# EAGLE library part TLC5947 (library 24x16_RGB_ATXMega_Wifi_BBuck)
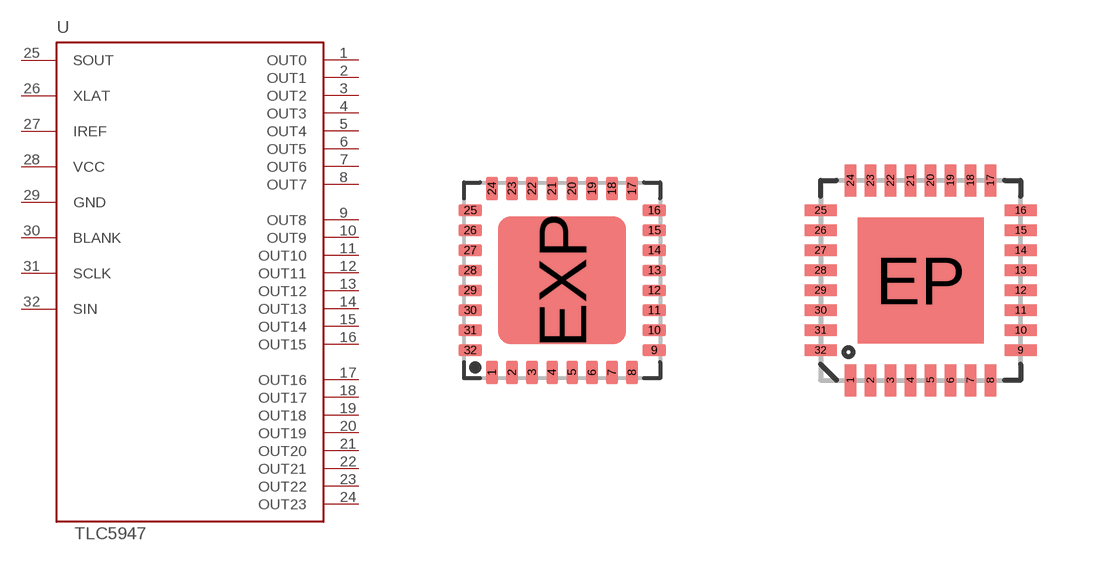
[diagram p5: symbol with the pads of QFN32; footprints QFN32, QFN32_XLP]

Designator prefix -

## TLC5947  [QFN32]
1  OUT0
2  OUT1
3  OUT2
4  OUT3
5  OUT4
6  OUT5
7  OUT6
8  OUT7
9  OUT8
10  OUT9
11  OUT10
12  OUT11
13  OUT12
14  OUT13
15  OUT14
16  OUT15
17  OUT16
18  OUT17
19  OUT18
20  OUT19
21  OUT20
22  OUT21
23  OUT22
24  OUT23
25  SOUT
26  XLAT
27  IREF
28  VCC
29  GND
30  BLANK
31  SCLK
32  SIN

## TLC5947XLP  [QFN32_XLP]
Pads as for QFN32

## Footprint QFN32 (pad centres in mm)
smd 0.3 x 0.6: 1 -1.75,-2.3; 2 -1.25,-2.3; 3 -0.75,-2.3; 4 -0.25,-2.3; 5 0.25,-2.3; 6 0.75,-2.3; 7 1.25,-2.3; 8 1.75,-2.3; 17 1.75,2.3; 18 1.25,2.3; 19 0.75,2.3; 20 0.25,2.3; 21 -0.25,2.3; 22 -0.75,2.3; 23 -1.25,2.3; 24 -1.75,2.3
smd 0.6 x 0.3: 9 2.3,-1.75; 10 2.3,-1.25; 11 2.3,-0.75; 12 2.3,-0.25; 13 2.3,0.25; 14 2.3,0.75; 15 2.3,1.25; 16 2.3,1.75; 25 -2.3,1.75; 26 -2.3,1.25; 27 -2.3,0.75; 28 -2.3,0.25; 29 -2.3,-0.25; 30 -2.3,-0.75; 31 -2.3,-1.25; 32 -2.3,-1.75
smd 3.2 x 3.2: EXP 0,0

## Footprint QFN32_XLP (pad centres in mm)
smd 0.285 x 0.8: 1 -1.75,-2.5; 2 -1.25,-2.5; 3 -0.75,-2.5; 4 -0.25,-2.5; 5 0.25,-2.5; 6 0.75,-2.5; 7 1.25,-2.5; 8 1.75,-2.5; 17 1.75,2.5; 18 1.25,2.5; 19 0.75,2.5; 20 0.25,2.5; 21 -0.25,2.5; 22 -0.75,2.5; 23 -1.25,2.5; 24 -1.75,2.5
smd 0.8 x 0.285: 9 2.5,-1.75; 10 2.5,-1.25; 11 2.5,-0.75; 12 2.5,-0.25; 13 2.5,0.25; 14 2.5,0.75; 15 2.5,1.25; 16 2.5,1.75; 25 -2.5,1.75; 26 -2.5,1.25; 27 -2.5,0.75; 28 -2.5,0.25; 29 -2.5,-0.25; 30 -2.5,-0.75; 31 -2.5,-1.25; 32 -2.5,-1.75
smd 3.15 x 3.15: EP 0,0